# Altium schematic symbol library MP1541.SchLib: 1 symbol
Pins are listed as number, name and electrical type; pins without a type are passive.

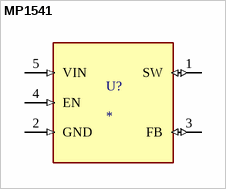
[diagram p0: symbol MP1541]

## MP1541
designator U?
MP: TPS563201DDCR; MF: {'manufacturer': u'Texas Instruments'}; Price: None; Availability: Unavailable; Package: None; Value: *
pins: 1 SW (io), 2 GND (in), 3 FB (io), 4 EN (in), 5 VIN (in)